# Altium footprint library Footprints.PcbLib: 77 footprints (part 2 of 5)
Each footprint in its own frame and in the unit in brackets; x right, y up, seen from the top. Pads: shape width x height; smd on the part's side, far side on the other; paste and mask are expansions set on the pad; w line width, h text height; cw(c..) or ccw(c..) is an arc to the next point about the centre after c.
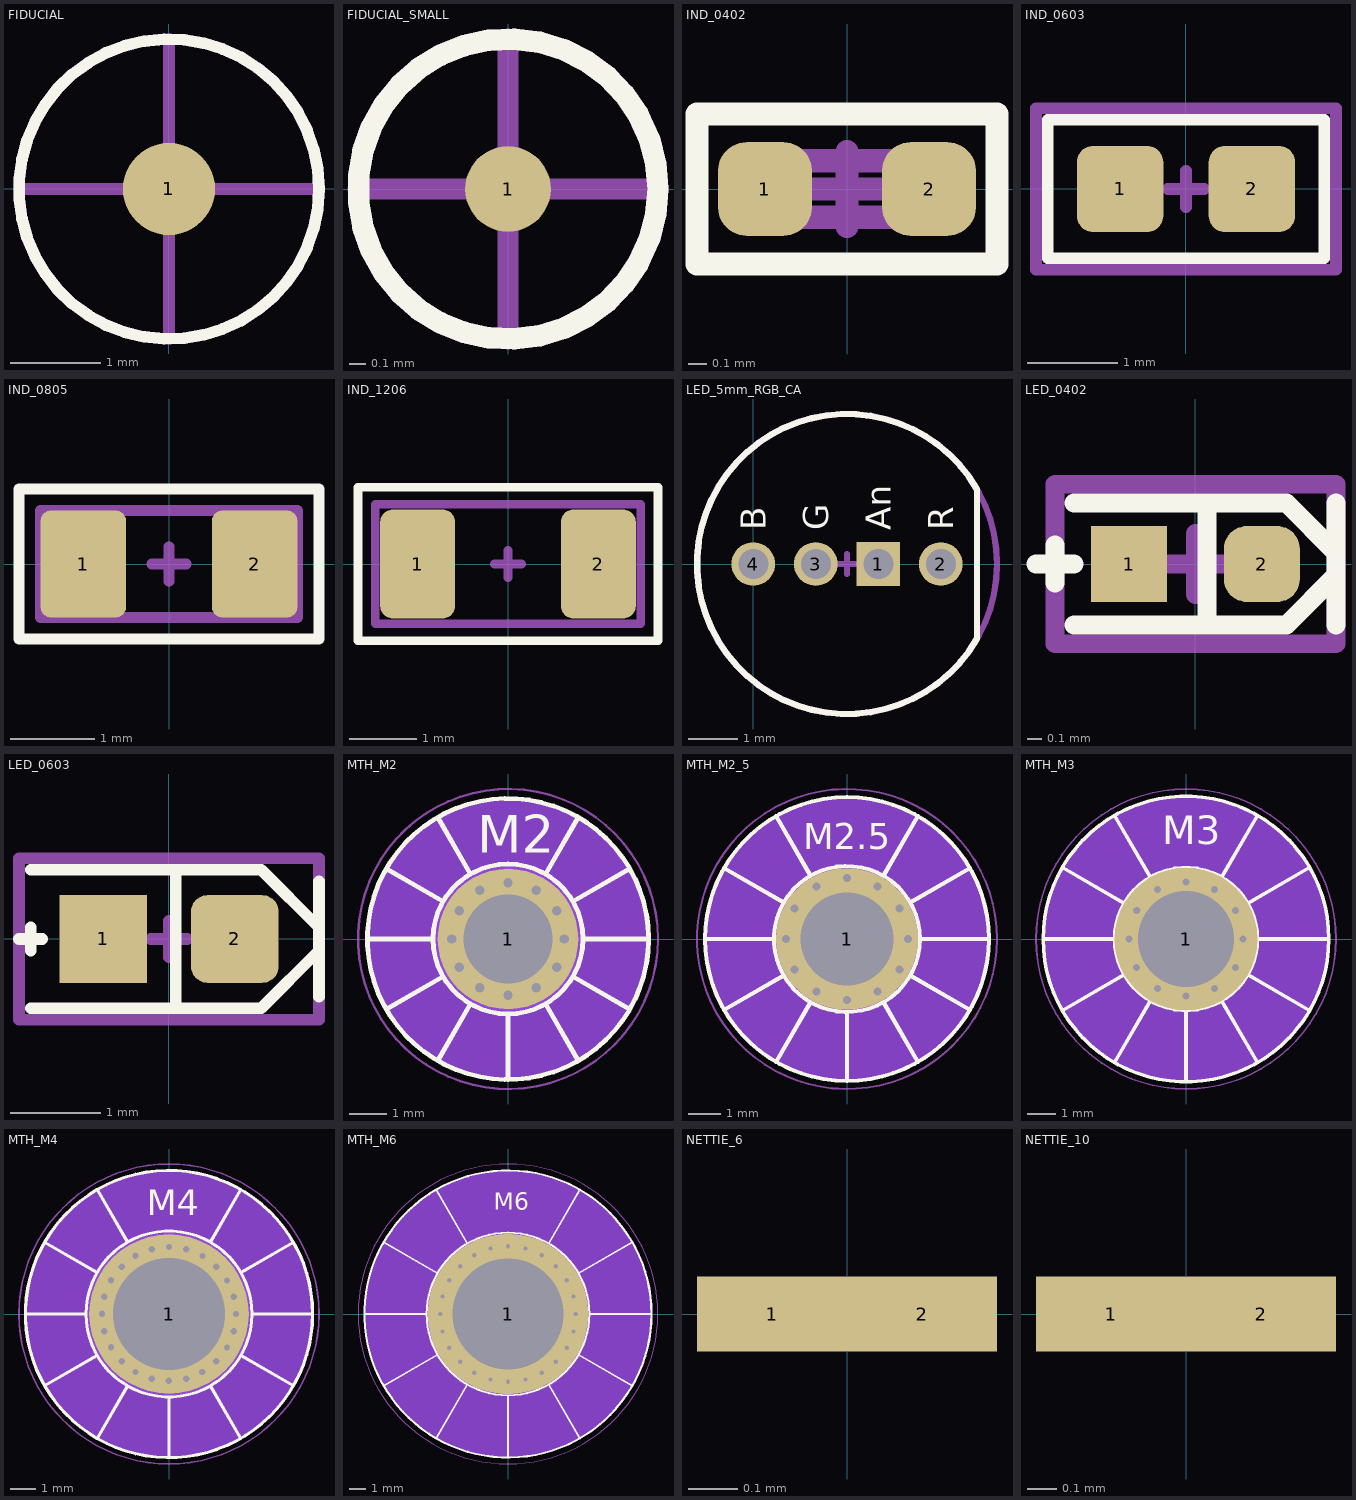
[diagram p1: the footprints below, top view; thin cyan lines are the x and y axes]

## FIDUCIAL [mil]
pads (1):
  round 40 smd paste-999 mask+40: 1(0,0)
Top Overlay:
  circle w5: c0,0 r65
Top Assembly (Mech8):
  circle w5: c0,0 r65
  lines w5: -65,0 65,0 ; 0,-65 0,65

## FIDUCIAL_SMALL [mil]
pads (1):
  round 20 smd paste-999 mask+20: 1(0,0)
Top Overlay:
  circle w5: c0,0 r35
Top Assembly (Mech8):
  circle w5: c0,0 r35
  lines w5: -35,0 35,0 ; 0,-35 0,35

## IND_0402 [mil]
pads (2):
  rrect60% 20x20 smd paste+0 mask+1.97: 1(-17.5,0) 2(17.5,0)
Top Overlay:
  lines w5: -32,-16 32,-16 32,16 -32,16 -32,-16
Top Designator:
  text "'.Designator'" at -27,-11.34 h20
  text "'.Comment'" at -27,-53 h20
Top Assembly (Mech8):
  lines w5: -8,0 8,0 ; 0,-8 0,8 ; -22,-6 22,-6 22,6 -22,6 -22,-6
3D body "Cap0402.step": height 19.68, standoff 0, extent -19.37,-9.69 20,10

## IND_0603 [mm]
pads (2):
  rrect37% 0.95x0.95 smd: 1(-0.725,0) 2(0.725,0)
Top Overlay:
  lines w0.127: -1.524,-0.762 1.524,-0.762 1.524,0.762 -1.524,0.762 -1.524,-0.762
Top Designator:
  text "'.Comment'" at -1.346,-1.499 h0.51
  text "'.Designator'" at -1.346,-0.186 h0.51
Bottom Designator:
Top Assembly (Mech8):
  lines w0.127: -0.203,0 0.203,0 ; 0,-0.203 0,0.203 ; -1.651,-0.889 1.651,-0.889 1.651,0.889 -1.651,0.889 -1.651,-0.889
3D body "User Library-RES_SMD-1.step": height 0.55, standoff 0, extent -0.875,-0.475 0.875,0.475

## IND_0805 [mil]
pads (2):
  rrect25% 40x50 smd: 1(-40,0) 2(40,0)
Top Overlay:
  lines w5: -70,-35 -70,35 70,35 70,-35 -70,-35
Top Designator:
  text "'.Comment'" at -64,-30 h20
  text "'.Designator'" at -64,6.66 h20
Top Assembly (Mech8):
  lines w5: -8,0 8,0 ; 0,-8 0,8 ; -60,-25 60,-25 60,25 -60,25 -60,-25
3D body "CircuitWorks-RC0805.step": height 24.13, standoff 0.5, extent -39.37,-24.6 39.37,24.61

## IND_1206 [mil]
pads (2):
  rrect33% 44x64 smd: 1(-53,0) 2(53,0)
Top Overlay:
  lines w5: -88,-45 -88,45 88,45 88,-45 -88,-45
Top Designator:
  text "'.Designator'" at -81.06,7.66 h20
  text "'.Comment'" at -81.06,-37.49 h20
Top Assembly (Mech8):
  lines w5: -8,0 8,0 ; 0,-8 0,8 ; -78,-35 78,-35 78,35 -78,35 -78,-35
3D body "User Library-SMD Resistors.step": height 22.16, standoff 0.5, extent -63,-31.69 62.99,31.69

## LED_5mm_RGB_CA [mil]
pads (5):
  rect 35x35 hole 24: 1(100,0)
  round 35 hole 24: 2(150,0) 3(50,0) 4(0,0)
  round 7.5 on Mech8: ""(100,0)
Top Overlay:
  lines w5: 178.92,-60 cw(c75,0) 178.92,60 ; 179,-60 179,60
  text "B" at 10,27 h20
  text "G" at 60,27 h20
  text "R" at 160,27 h20
  text "An" at 110,27 h20
Top Designator:
  text "'.Comment'" at 2.94,-94.49 h20
  text "'.Designator'" at 2.94,-49.34 h20
Top Assembly (Mech8):
  circle w5: c75,0 r120
  lines w5: 67,0 83,0 ; 75,-8 75,8

## LED_0402 [mil]
pads (3):
  rect 20x20 smd paste+0 mask+1.97: 1(-17.5,0)
  rrect60% 20x20 smd paste+0 mask+1.97: 2(17.5,0)
  round 7.5 on Mech8: ""(-17.5,0)
Top Overlay:
  lines w5: -42,0 -32,0 ; -37,-5 -37,5 ; -32,-16 24,-16 37,-3 37,3 24,16 -32,16 ; 3,-16 3,16 ; 37,-16 37,16
Top Designator:
  text "'.Designator'" at -27,-11.34 h20
  text "'.Comment'" at -27,-53 h20
Top Assembly (Mech8):
  lines w5: -8,0 8,0 ; 0,-8 0,8 ; -37,-21 37,-21 37,21 -37,21 -37,-21
3D body "SML-P11UTT86R.STEP": height 10.35, standoff 0.5, extent -19.69,-11.81 19.68,11.81

## LED_0603 [mil]
pads (3):
  rect 38x38 smd: 1(-28.54,0)
  rrect37% 38x38 smd: 2(28.54,0)
  round 7.5 on Mech8: ""(-28.54,0)
Top Overlay:
  lines w5: -65,0 -55,0 ; -60,-30 40,-30 65,-5 65,5 40,30 -60,30 ; -60,-5 -60,5 ; 3,-30 3,30 ; 65,-25 65,25
Top Designator:
  text "'.Designator'" at -53,-7.34 h20
  text "'.Comment'" at -53,-59 h20
Bottom Designator:
Top Assembly (Mech8):
  lines w5: -8,0 8,0 ; 0,-8 0,8 ; -65,-35 65,-35 65,35 -65,35 -65,-35
3D body "LSM0603XXXV.STEP": height 23.16, standoff 0.5, extent -31.5,-15.74 31.49,15.75

## MTH_M2 [mil]
pads (1):
  round 150 hole 95: 1(0,0)
via 30,51.96 diameter 20 hole 10
via 51.96,30 diameter 20 hole 10
via 60,0 diameter 20 hole 10
via 51.96,-30 diameter 20 hole 10
via 30,-51.96 diameter 20 hole 10
via 0,-60 diameter 20 hole 10
via -30,-51.96 diameter 20 hole 10
via -51.96,-30 diameter 20 hole 10
via -60,0 diameter 20 hole 10
via -51.96,30 diameter 20 hole 10
via -30,51.96 diameter 20 hole 10
via 0,60 diameter 20 hole 10
Top Layer keep-out:
  region: 0,-150 -9.83,-150 -29.33,-147.43 -48.32,-142.34 -66.49,-134.82 -83.51,-124.99 -99.11,-113.02 -113.02,-99.11 -124.99,-83.51 -134.82,-66.49 -142.34,-48.32 -147.43,-29.33 -150,-9.83 -150,0 -150,9.83 -147.43,29.33 -142.34,48.32 -134.82,66.49 -124.99,83.51 -113.02,99.11 -99.11,113.02 -83.51,124.99 -66.49,134.82 -48.32,142.34 -29.33,147.43 -9.83,150 0,150 9.83,150 29.33,147.43 48.32,142.34 66.49,134.82 83.51,124.99 99.11,113.02 113.02,99.11 124.99,83.51 134.82,66.49 142.34,48.32 147.43,29.33 150,9.83 150,0 150,-9.83 147.43,-29.33 142.34,-48.32 134.82,-66.49 124.99,-83.51 113.02,-99.11 99.11,-113.02 83.51,-124.99 66.49,-134.82 48.32,-142.34 29.33,-147.43 9.83,-150
Bottom Layer keep-out:
  region: 0,-150 -9.83,-150 -29.33,-147.43 -48.32,-142.34 -66.49,-134.82 -83.51,-124.99 -99.11,-113.02 -113.02,-99.11 -124.99,-83.51 -134.82,-66.49 -142.34,-48.32 -147.43,-29.33 -150,-9.83 -150,0 -150,9.83 -147.43,29.33 -142.34,48.32 -134.82,66.49 -124.99,83.51 -113.02,99.11 -99.11,113.02 -83.51,124.99 -66.49,134.82 -48.32,142.34 -29.33,147.43 -9.83,150 0,150 9.83,150 29.33,147.43 48.32,142.34 66.49,134.82 83.51,124.99 99.11,113.02 113.02,99.11 124.99,83.51 134.82,66.49 142.34,48.32 147.43,29.33 150,9.83 150,0 150,-9.83 147.43,-29.33 142.34,-48.32 134.82,-66.49 124.99,-83.51 113.02,-99.11 99.11,-113.02 83.51,-124.99 66.49,-134.82 48.32,-142.34 29.33,-147.43 9.83,-150
Top Overlay:
  circle w5: c0,0 r150
  circle w5: c0,0 r80
  lines w5: -150,0 -80,0 ; -129.9,-75 -69.28,-40 ; -129.9,75 -69.28,40 ; -75,-129.9 -40,-69.28 ; -75,129.9 -40,69.28 ; 0,-150 0,-80 ; 40,-69.28 75,-129.9 ; 40,69.28 75,129.9 ; 69.28,-40 129.9,-75 ; 69.28,40 129.9,75 ; 80,0 150,0
  text "M2" at -33,92 h40
Bottom Overlay:
  text "M2" at 33,92 h40
Top Assembly (Mech8):
  circle w5: c0,0 r47.5
  circle w5: c0,0 r75
  text "M2" at -33,92 h40
Top Courtyard:
  circle w2.5: c0,0 r160
Bottom Courtyard:
  circle w2.5: c0,0 r160

## MTH_M2_5 [mil]
pads (1):
  round 175 hole 115: 1(0,0)
via 0,75 diameter 20 hole 10
via -37.5,64.95 diameter 20 hole 10
via -64.95,37.5 diameter 20 hole 10
via -75,0 diameter 20 hole 10
via -64.95,-37.5 diameter 20 hole 10
via -37.5,-64.95 diameter 20 hole 10
via 0,-75 diameter 20 hole 10
via 37.5,-64.95 diameter 20 hole 10
via 64.95,-37.5 diameter 20 hole 10
via 75,0 diameter 20 hole 10
via 64.95,37.5 diameter 20 hole 10
via 37.5,64.95 diameter 20 hole 10
Top Layer keep-out:
  region: 0,175 -11.47,175 -34.21,172.01 -56.37,166.07 -77.57,157.29 -97.43,145.82 -115.63,131.85 -131.85,115.63 -145.82,97.43 -157.29,77.57 -166.07,56.37 -172.01,34.21 -175,11.47 -175,0 -175,-11.47 -172.01,-34.21 -166.07,-56.37 -157.29,-77.57 -145.82,-97.43 -131.85,-115.63 -115.63,-131.85 -97.43,-145.82 -77.57,-157.29 -56.37,-166.07 -34.21,-172.01 -11.47,-175 0,-175 11.47,-175 34.21,-172.01 56.37,-166.07 77.57,-157.29 97.43,-145.82 115.63,-131.85 131.85,-115.63 145.82,-97.43 157.29,-77.57 166.07,-56.37 172.01,-34.21 175,-11.47 175,0 175,11.47 172.01,34.21 166.07,56.37 157.29,77.57 145.82,97.43 131.85,115.63 115.63,131.85 97.43,145.82 77.57,157.29 56.37,166.07 34.21,172 11.47,175
Bottom Layer keep-out:
  region: 0,175 -11.47,175 -34.21,172.01 -56.37,166.07 -77.57,157.29 -97.43,145.82 -115.63,131.85 -131.85,115.63 -145.82,97.43 -157.29,77.57 -166.07,56.37 -172.01,34.21 -175,11.47 -175,0 -175,-11.47 -172.01,-34.21 -166.07,-56.37 -157.29,-77.57 -145.82,-97.43 -131.85,-115.63 -115.63,-131.85 -97.43,-145.82 -77.57,-157.29 -56.37,-166.07 -34.21,-172.01 -11.47,-175 0,-175 11.47,-175 34.21,-172.01 56.37,-166.07 77.57,-157.29 97.43,-145.82 115.63,-131.85 131.85,-115.63 145.82,-97.43 157.29,-77.57 166.07,-56.37 172.01,-34.21 175,-11.47 175,0 175,11.47 172.01,34.21 166.07,56.37 157.29,77.57 145.82,97.43 131.85,115.63 115.63,131.85 97.43,145.82 77.57,157.29 56.37,166.07 34.21,172 11.47,175
Top Overlay:
  circle w5: c0,0 r90
  circle w5: c0,0 r175
  lines w5: -175,0 -90,0 ; -151.55,-87.5 -77.94,-45 ; -151.55,87.5 -77.94,45 ; -87.5,-151.55 -45,-77.94 ; -87.5,151.55 -45,77.94 ; 0,-175 0,-90 ; 45,-77.94 87.5,-151.55 ; 45,77.94 87.5,151.55 ; 77.94,-45 151.55,-87.5 ; 77.94,45 151.55,87.5 ; 90,0 175,0
  text "M2.5" at -54,111 h32
Bottom Overlay:
  text "M2.5" at 54,111 h32
Top Assembly (Mech8):
  circle w5: c0,0 r57.5
  circle w5: c0,0 r87.5
  text "M2.5" at -54,111 h32
Top Courtyard:
  circle w2.5: c0,0 r185
Bottom Courtyard:
  circle w2.5: c0,0 r185

## MTH_M3 [mil]
pads (1):
  round 200 hole 135: 1(0,0)
via 0,80 diameter 20 hole 10
via -40,69.28 diameter 20 hole 10
via -69.03,40.11 diameter 20 hole 10
via -80,0 diameter 20 hole 10
via -69.28,-40 diameter 20 hole 10
via -40,-69.28 diameter 20 hole 10
via 0,-80 diameter 20 hole 10
via 40,-69.28 diameter 20 hole 10
via 69.28,-40 diameter 20 hole 10
via 80,0 diameter 20 hole 10
via 69.28,40 diameter 20 hole 10
via 40,69.28 diameter 20 hole 10
Top Layer keep-out:
  region: 0,-200 -13.11,-200 -39.1,-196.58 -64.43,-189.79 -88.65,-179.76 -111.35,-166.65 -132.15,-150.69 -150.69,-132.15 -166.65,-111.35 -179.76,-88.65 -189.79,-64.43 -196.58,-39.1 -200,-13.11 -200,0 -200,13.11 -196.58,39.1 -189.79,64.43 -179.76,88.65 -166.65,111.35 -150.69,132.15 -132.15,150.69 -111.35,166.65 -88.65,179.76 -64.43,189.79 -39.1,196.58 -13.11,200 0,200 13.11,200 39.1,196.58 64.43,189.79 88.65,179.76 111.35,166.65 132.15,150.69 150.69,132.15 166.65,111.35 179.76,88.65 189.79,64.43 196.58,39.1 200,13.11 200,0 200,-13.11 196.58,-39.1 189.79,-64.43 179.76,-88.65 166.65,-111.35 150.69,-132.15 132.15,-150.69 111.35,-166.65 88.65,-179.76 64.43,-189.79 39.1,-196.58 13.11,-200
Bottom Layer keep-out:
  region: 0,-200 -13.11,-200 -39.1,-196.58 -64.43,-189.79 -88.65,-179.76 -111.35,-166.65 -132.15,-150.69 -150.69,-132.15 -166.65,-111.35 -179.76,-88.65 -189.79,-64.43 -196.58,-39.1 -200,-13.11 -200,0 -200,13.11 -196.58,39.1 -189.79,64.43 -179.76,88.65 -166.65,111.35 -150.69,132.15 -132.15,150.69 -111.35,166.65 -88.65,179.76 -64.43,189.79 -39.1,196.58 -13.11,200 0,200 13.11,200 39.1,196.58 64.43,189.79 88.65,179.76 111.35,166.65 132.15,150.69 150.69,132.15 166.65,111.35 179.76,88.65 189.79,64.43 196.58,39.1 200,13.11 200,0 200,-13.11 196.58,-39.1 189.79,-64.43 179.76,-88.65 166.65,-111.35 150.69,-132.15 132.15,-150.69 111.35,-166.65 88.65,-179.76 64.43,-189.79 39.1,-196.58 13.11,-200
Top Overlay:
  circle w5: c0,0 r100
  circle w5: c0,0 r200
  lines w5: -200,0 -100,0 ; -173.21,-100 -86.6,-50 ; -173.21,100 -86.6,50 ; -100,-173.21 -50,-86.6 ; -100,173.21 -50,86.6 ; 0,-200 0,-100 ; 50,-86.6 100,-173.21 ; 50,86.6 100,173.21 ; 86.6,-50 173.21,-100 ; 86.6,50 173.21,100 ; 100,0 200,0
  text "M3" at -33,133 h40
Bottom Overlay:
  text "M3" at 33,133 h40
Top Assembly (Mech8):
  circle w5: c0,0 r67.5
  circle w5: c0,0 r100
  text "M3" at -33,133 h40
Top Courtyard:
  circle w2.5: c0,0 r210
Bottom Courtyard:
  circle w2.5: c0,0 r210

## MTH_M4 [mil]
pads (1):
  round 250 hole 175: 1(0,0)
via 0,105 diameter 20 hole 10
via -52.47,90.97 diameter 20 hole 10
via -90.9,52.58 diameter 20 hole 10
via -104.98,0.12 diameter 20 hole 10
via -90.95,-52.36 diameter 20 hole 10
via -52.56,-90.78 diameter 20 hole 10
via -0.1,-104.87 diameter 20 hole 10
via 52.38,-90.83 diameter 20 hole 10
via 90.8,-52.44 diameter 20 hole 10
via 104.88,0.02 diameter 20 hole 10
via 90.85,52.49 diameter 20 hole 10
via 52.46,90.92 diameter 20 hole 10
via 27.16,101.41 diameter 20 hole 10
via -27.16,101.44 diameter 20 hole 10
via -74.21,74.3 diameter 20 hole 10
via -101.39,27.27 diameter 20 hole 10
via -101.42,-27.05 diameter 20 hole 10
via -74.28,-74.1 diameter 20 hole 10
via -27.25,-101.28 diameter 20 hole 10
via 27.06,-101.3 diameter 20 hole 10
via 74.12,-74.17 diameter 20 hole 10
via 101.3,-27.14 diameter 20 hole 10
via 101.32,27.18 diameter 20 hole 10
via 74.18,74.23 diameter 20 hole 10
Top Layer keep-out:
  region: 0,225 -14.75,225 -43.99,221.15 -72.48,213.52 -99.73,202.23 -125.27,187.48 -148.67,169.53 -169.53,148.67 -187.48,125.27 -202.23,99.73 -213.52,72.48 -221.15,43.99 -225,14.75 -225,0 -225,-14.75 -221.15,-43.99 -213.52,-72.48 -202.23,-99.73 -187.48,-125.27 -169.53,-148.67 -148.67,-169.53 -125.27,-187.48 -99.73,-202.23 -72.48,-213.52 -43.99,-221.15 -14.75,-225 0,-225 14.75,-225 43.99,-221.15 72.48,-213.52 99.73,-202.23 125.27,-187.48 148.67,-169.53 169.53,-148.67 187.48,-125.27 202.23,-99.73 213.52,-72.48 221.15,-43.99 225,-14.75 225,0 225,14.75 221.15,43.99 213.52,72.48 202.23,99.73 187.48,125.27 169.53,148.67 148.67,169.53 125.27,187.48 99.73,202.23 72.48,213.52 43.99,221.15 14.75,225
Bottom Layer keep-out:
  region: 0,225 -14.75,225 -43.99,221.15 -72.48,213.52 -99.73,202.23 -125.27,187.48 -148.67,169.53 -169.53,148.67 -187.48,125.27 -202.23,99.73 -213.52,72.48 -221.15,43.99 -225,14.75 -225,0 -225,-14.75 -221.15,-43.99 -213.52,-72.48 -202.23,-99.73 -187.48,-125.27 -169.53,-148.67 -148.67,-169.53 -125.27,-187.48 -99.73,-202.23 -72.48,-213.52 -43.99,-221.15 -14.75,-225 0,-225 14.75,-225 43.99,-221.15 72.48,-213.52 99.73,-202.23 125.27,-187.48 148.67,-169.53 169.53,-148.67 187.48,-125.27 202.23,-99.73 213.52,-72.48 221.15,-43.99 225,-14.75 225,0 225,14.75 221.15,43.99 213.52,72.48 202.23,99.73 187.48,125.27 169.53,148.67 148.67,169.53 125.27,187.48 99.73,202.23 72.48,213.52 43.99,221.15 14.75,225
Top Overlay:
  circle w5: c0,0 r130
  circle w5: c0,0 r225
  lines w5: -225,0 -130,0 ; -194.86,-112.5 -112.58,-65 ; -194.86,112.5 -112.58,65 ; -112.5,-194.86 -65,-112.58 ; -112.5,194.86 -65,112.58 ; 0,-225 0,-130 ; 65,-112.58 112.5,-194.86 ; 65,112.58 112.5,194.86 ; 112.58,-65 194.86,-112.5 ; 112.58,65 194.86,112.5 ; 130,0 225,0
  text "M4" at -35,155 h40
Bottom Overlay:
  text "M4" at 35,155 h40
Top Assembly (Mech8):
  circle w5: c0,0 r87.5
  circle w5: c0,0 r125
  text "M4" at -35,155 h40
Top Courtyard:
  circle w2.5: c0,0 r235
Bottom Courtyard:
  circle w2.5: c0,0 r235

## MTH_M6 [mil]
pads (1):
  round 375 hole 260: 1(0,0)
via 40.89,152.62 diameter 20 hole 10
via 79,136.83 diameter 20 hole 10
via 111.72,111.72 diameter 20 hole 10
via 136.83,79 diameter 20 hole 10
via 152.62,40.89 diameter 20 hole 10
via 158,0 diameter 20 hole 10
via 152.62,-40.89 diameter 20 hole 10
via 136.83,-79 diameter 20 hole 10
via 111.72,-111.72 diameter 20 hole 10
via 79,-136.83 diameter 20 hole 10
via 40.89,-152.62 diameter 20 hole 10
via 0,-158 diameter 20 hole 10
via -40.89,-152.62 diameter 20 hole 10
via -79,-136.83 diameter 20 hole 10
via -111.72,-111.72 diameter 20 hole 10
via -136.83,-79 diameter 20 hole 10
via -152.62,-40.89 diameter 20 hole 10
via -158,0 diameter 20 hole 10
via -152.62,40.89 diameter 20 hole 10
via -136.83,79 diameter 20 hole 10
via -111.72,111.72 diameter 20 hole 10
via -79,136.83 diameter 20 hole 10
via -40.89,152.62 diameter 20 hole 10
via 0,158 diameter 20 hole 10
Top Layer keep-out:
  region: -335,0 -335,-16.46 -331.77,-49.21 -325.35,-81.5 -315.8,-112.99 -303.2,-143.4 -287.69,-172.43 -269.4,-199.8 -248.52,-225.24 -225.24,-248.52 -199.8,-269.4 -172.43,-287.69 -143.4,-303.2 -112.99,-315.8 -81.5,-325.35 -49.21,-331.77 -16.46,-335 0,-335 16.46,-335 49.21,-331.77 81.5,-325.35 112.99,-315.8 143.4,-303.2 172.43,-287.69 199.8,-269.4 225.24,-248.52 248.52,-225.24 269.4,-199.8 287.69,-172.43 303.2,-143.4 315.8,-112.99 325.35,-81.5 331.77,-49.21 335,-16.46 335,0 335,16.46 331.77,49.21 325.35,81.5 315.8,112.99 303.2,143.4 287.69,172.43 269.4,199.8 248.52,225.24 225.24,248.52 199.8,269.4 172.43,287.69 143.4,303.2 112.99,315.8 81.5,325.35 49.21,331.77 16.46,335 0,335 -16.46,335 -49.21,331.77 -81.5,325.35 -112.99,315.8 -143.4,303.2 -172.43,287.69 -199.8,269.4 -225.24,248.52 -248.52,225.24 -269.4,199.8 -287.69,172.43 -303.2,143.4 -315.8,112.99 -325.35,81.5 -331.77,49.21 -335,16.46
Bottom Layer keep-out:
  region: -335,0 -335,-16.46 -331.77,-49.21 -325.35,-81.5 -315.8,-112.99 -303.2,-143.4 -287.69,-172.43 -269.4,-199.8 -248.52,-225.24 -225.24,-248.52 -199.8,-269.4 -172.43,-287.69 -143.4,-303.2 -112.99,-315.8 -81.5,-325.35 -49.21,-331.77 -16.46,-335 0,-335 16.46,-335 49.21,-331.77 81.5,-325.35 112.99,-315.8 143.4,-303.2 172.43,-287.69 199.8,-269.4 225.24,-248.52 248.52,-225.24 269.4,-199.8 287.69,-172.43 303.2,-143.4 315.8,-112.99 325.35,-81.5 331.77,-49.21 335,-16.46 335,0 335,16.46 331.77,49.21 325.35,81.5 315.8,112.99 303.2,143.4 287.69,172.43 269.4,199.8 248.52,225.24 225.24,248.52 199.8,269.4 172.43,287.69 143.4,303.2 112.99,315.8 81.5,325.35 49.21,331.77 16.46,335 0,335 -16.46,335 -49.21,331.77 -81.5,325.35 -112.99,315.8 -143.4,303.2 -172.43,287.69 -199.8,269.4 -225.24,248.52 -248.52,225.24 -269.4,199.8 -287.69,172.43 -303.2,143.4 -315.8,112.99 -325.35,81.5 -331.77,49.21 -335,16.46
Top Overlay:
  circle w5: c0,0 r190
  circle w5: c0,0 r335
  lines w5: -335,0 -190,0 ; -290.12,-167.5 -164.54,-95 ; -290.12,167.5 -164.54,95 ; -167.5,-290.12 -95,-164.54 ; -167.5,290.12 -95,164.54 ; 0,-335 0,-190 ; 95,-164.54 167.5,-290.12 ; 95,164.54 167.5,290.12 ; 164.54,-95 290.12,-167.5 ; 164.54,95 290.12,167.5 ; 190,0 335,0
  text "M6" at -33.32,243.01 h40
Bottom Overlay:
  circle w5: c0,0 r335
  circle w5: c0,0 r190
  lines w5: -335,0 -190,0 ; -290.12,-167.5 -164.54,-95 ; -290.12,167.5 -164.54,95 ; -167.5,-290.12 -95,-164.54 ; -167.5,290.12 -95,164.54 ; 0,-335 0,-190 ; 95,-164.54 167.5,-290.12 ; 95,164.54 167.5,290.12 ; 164.54,-95 290.12,-167.5 ; 164.54,95 290.12,167.5 ; 190,0 335,0
  text "M6" at 33.32,243.01 h40
Top Assembly (Mech8):
  circle w5: c0,0 r130
  circle w5: c0,0 r187.5
  text "M6" at -33.32,243.01 h40
Top Courtyard:
  circle w2.5: c0,0 r350
Bottom Courtyard:
  circle w2.5: c0,0 r350

## NETTIE_6 [mil]
pads (2):
  rect 12x6 smd paste-999 mask+0: 1(-6,0) 2(6,0)

## NETTIE_10 [mil]
pads (2):
  rect 20x10 smd paste-999 mask+0: 1(-10,0) 2(10,0)